# Altium schematic symbol library PMIC-DC-DC-JOULWATT.SchLib: 2 symbols
Pins are listed as number, name and electrical type; pins without a type are passive.

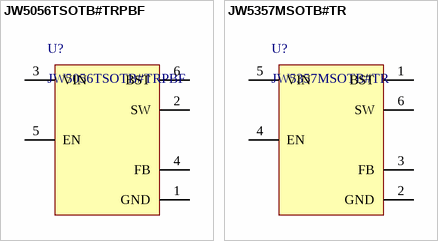
[diagram p0: symbols JW5056TSOTB#TRPBF to JW5357MSOTB#TR]

## JW5056TSOTB#TRPBF
designator U?
DC-DC BUCK 5A, 4.5-18V INPUT VOLTAGE; Manufacturer: JoulWatt Tech; LCSC: C19188991; ComponentLink1Description: LCSC Link; ComponentLink1URL: https://www.lcsc.com/product-detail/C19188991.html?s_z=n_JW5056
footprint SOT95P280X110-6N (SOT23, 6-Leads, Body 2,90x2,80mm, Pitch 0,95mm, IPC Medium Density)
pins: 1 GND, 2 SW, 3 VIN, 4 FB, 5 EN, 6 BST

## JW5357MSOTB#TR
designator U?
DC-DC BUCK 3A, 4.5-18V INPUT VOLTAGE; Manufacturer: JoulWatt Tech; LCSC: C5197556; ComponentLink1Description: LCSC Link; ComponentLink1URL: https://www.lcsc.com/product-detail/C5197556.html?s_z=n_JW5357; Manufacturer Part Number: JW5357MSOTB#TR
footprint SOT95P280X110-6N (SOT23, 6-Leads, Body 2,90x2,80mm, Pitch 0,95mm, IPC Medium Density)
pins: 1 BST, 2 GND, 3 FB, 4 EN, 5 VIN, 6 SW